# Altium schematic symbol library nxp.SchLib: 2 symbols
Pins are listed as number, name and electrical type; pins without a type are passive.

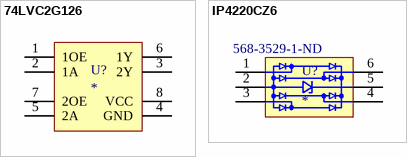
[diagram p0: symbols 74LVC2G126 to IP4220CZ6]

## 74LVC2G126
designator U?
Dual Bus Buffer/Line Driver; 3-State
footprint TSOP65P400X110-8L (TSOP, 8-Leads, Body 3,00x3,00mm, Pitch 0,65mm, IPC High Density)
pins: 1 1OE, 2 1A, 3 2Y, 4 GND, 5 2A, 6 1Y, 7 2OE, 8 VCC

## IP4220CZ6
designator U?  Supplier Part Number 1: 568-3529-1-ND
Dual USB 2.0 integrated ESD protection; Supplier 1: Digi-Key
footprint IP4220CZ6 (Dual USB 2.0 integrated ESD protection)
pins: 1, 2, 3, 4, 5, 6